# Altium schematic symbol library MICROFJ-30035-TSV-TR.SchLib: 1 symbol
Pins are listed as number, name and electrical type; pins without a type are passive.

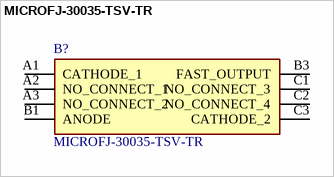
[diagram p0: symbol MICROFJ-30035-TSV-TR]

## MICROFJ-30035-TSV-TR
designator B?
High-density microcells; Optimized for high-performance timing applications, such as ToF-PET; Ultra-low dark count rates of 50 kHz/mm2 typical; J-Series sensors feature ON Semiconductor's unique 'fast output' terminal; Exceptional breakdown voltage uniformity of +/-250 mV; Temperature stability of 21.5 mV/C; 3 mm, 4 mm and 6 mm sensor sizes; Available in a reflow solder compatible TSV chip-scale package; Bias voltage of <30 V; Manufacturer_Name: onsemi; Geometry.Height: 0.69mm; Manufacturer_Part_Number: MICROFJ-30035-TSV-TR; Mouser Part Number: 863-MFJ30035TSVTR; Mouser Price/Stock: https://www.mouser.co.uk/ProductDetail/onsemi/MICROFJ-30035-TSV-TR?qs=byeeYqUIh0NWig1VlbDyxw%3D%3D; Arrow Part Number: MICROFJ-30035-TSV-TR; Arrow Price/Stock: https://www.arrow.com/en/products/microfj-30035-tsv-tr/on-semiconductor?region=nac; Datasheet Link: https://www.onsemi.com/pub/Collateral/MICROJ-SERIES-D.PDF
footprint MICROFJ30035TSVTR
pins: A1 CATHODE_1, A2 NO_CONNECT_1, A3 NO_CONNECT_2, B1 ANODE, B3 FAST_OUTPUT, C1 NO_CONNECT_3, C2 NO_CONNECT_4, C3 CATHODE_2